# Altium footprint library FUSAD2722W65L2250D600.PcbLib: 1 footprints
Each footprint in its own frame and in the unit in brackets; x right, y up, seen from the top. Pads: shape width x height; smd on the part's side, far side on the other; paste and mask are expansions set on the pad; w line width, h text height; cw(c..) or ccw(c..) is an arc to the next point about the centre after c.
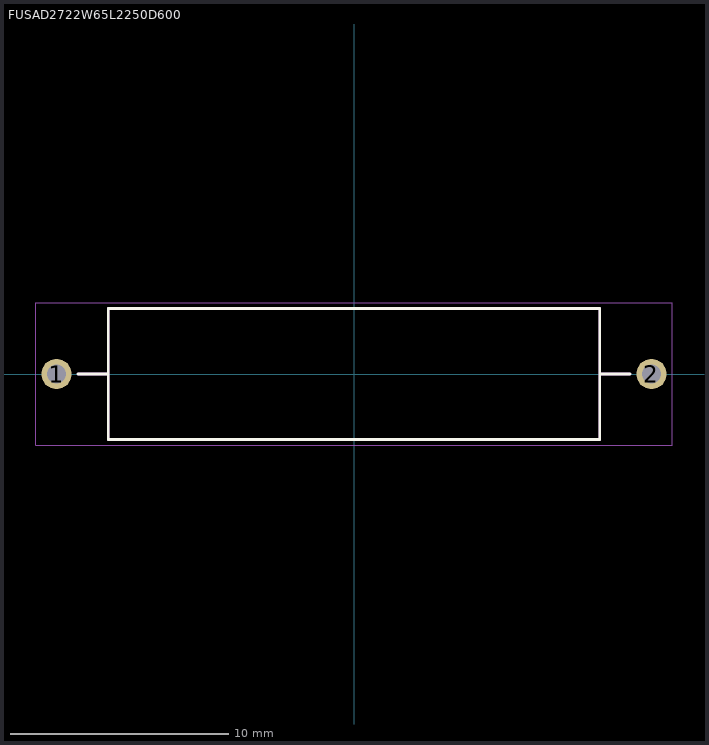
[diagram p0: the footprint, top view; thin cyan lines are the x and y axes]

## FUSAD2722W65L2250D600 [mm]
pads (2):
  round 1.388 hole 0.88: 1(-13.613,0) 2(13.613,0)
Top Overlay:
  lines w0.127: -12.632,0 -11.25,0 ; 12.632,0 11.25,0 ; -11.25,0 -11.25,3 11.25,3 11.25,0 ; -11.25,0 -11.25,-3 11.25,-3 11.25,0
Mechanical 13:
  lines w0.127: -12.632,0 -11.25,0 ; 12.632,0 11.25,0 ; -11.25,0 -11.25,3 11.25,3 11.25,0 ; -11.25,0 -11.25,-3 11.25,-3 11.25,0
Mechanical 15:
  lines w0.05: -14.56,-3.25 -14.56,3.25 14.56,3.25 14.56,-3.25 -14.56,-3.25